# Altium footprint library ESP32_C3_MINI_1_H4.PcbLib: 1 footprints
Each footprint in its own frame and in the unit in brackets; x right, y up, seen from the top. Pads: shape width x height; smd on the part's side, far side on the other; paste and mask are expansions set on the pad; w line width, h text height; cw(c..) or ccw(c..) is an arc to the next point about the centre after c.
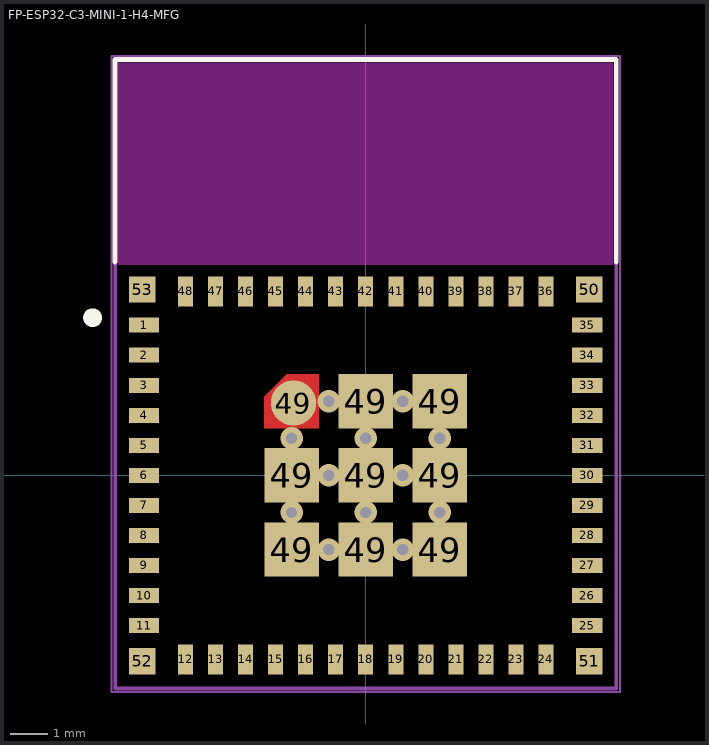
[diagram p0: the footprint, top view; thin cyan lines are the x and y axes]

## FP-ESP32-C3-MINI-1-H4-MFG [mm]
pads (61):
  rect 0.8x0.4 smd paste+0 mask+0: 1(-5.9,4) 2(-5.9,3.2) 3(-5.9,2.4) 4(-5.9,1.6) 5(-5.9,0.8) 6(-5.9,0) 7(-5.9,-0.8) 8(-5.9,-1.6) 9(-5.9,-2.4) 10(-5.9,-3.2) 11(-5.9,-4) 25(5.9,-4) 26(5.9,-3.2) 27(5.9,-2.4) 28(5.9,-1.6) 29(5.9,-0.8) 30(5.9,0) 31(5.9,0.8) 32(5.9,1.6) 33(5.9,2.4) 34(5.9,3.2) 35(5.9,4)
  rect 0.4x0.8 smd paste+0 mask+0: 12(-4.8,-4.9) 13(-4,-4.9) 14(-3.2,-4.9) 15(-2.4,-4.9) 16(-1.6,-4.9) 17(-0.8,-4.9) 18(0,-4.9) 19(0.8,-4.9) 20(1.6,-4.9) 21(2.4,-4.9) 22(3.2,-4.9) 23(4,-4.9) 24(4.8,-4.9) 36(4.8,4.9) 37(4,4.9) 38(3.2,4.9) 39(2.4,4.9) 40(1.6,4.9) 41(0.8,4.9) 42(0,4.9) 43(-0.8,4.9) 44(-1.6,4.9) 45(-2.4,4.9) 46(-3.2,4.9) 47(-4,4.9) 48(-4.8,4.9)
  rect 1.45x1.45 smd paste+0 mask+0: 49(-1.975,-1.975) 49(-1.975,0) 49(0,-1.975) 49(0,0) 49(0,1.975) 49(1.975,-1.975) 49(1.975,0) 49(1.975,1.975)
  round 1.207 smd paste+0 mask+0: 49(-1.926,1.926)
  rect 0.7x0.7 smd paste+0 mask+0: 50(5.95,4.95) 51(5.95,-4.95) 52(-5.95,-4.95) 53(-5.95,4.95)
via 0.988,1.975 diameter 0.6 hole 0.3
via 0.988,0 diameter 0.6 hole 0.3
via 0.988,-1.975 diameter 0.6 hole 0.3
via -0.988,1.975 diameter 0.6 hole 0.3
via -0.988,0 diameter 0.6 hole 0.3
via -0.988,-1.975 diameter 0.6 hole 0.3
via 1.975,-0.988 diameter 0.6 hole 0.3
via 0,-0.988 diameter 0.6 hole 0.3
via -1.975,-0.988 diameter 0.6 hole 0.3
via 1.975,0.988 diameter 0.6 hole 0.3
via 0,0.988 diameter 0.6 hole 0.3
via -1.975,0.988 diameter 0.6 hole 0.3
Top Layer:
  region: -2.7,1.25 -2.7,2.1 -2.1,2.7 -1.25,2.7 -1.25,1.25
Top Overlay:
  circle w0.25: c-7.275,4.2 r0.125
  lines w0.127: -6.675,5.675 -6.675,11.075 6.675,11.075 6.675,5.675
Keep-Out Layer:
  rectangle: -6.6,5.6 6.6,11
Top Assembly:
  lines w0.1: -6.675,-5.675 -6.675,11.075 6.675,11.075 6.675,-5.675 -6.675,-5.675
  text ".Designator" at 0,2.888 h1
Top Courtyard:
  lines w0.05: -6.775,-5.775 -6.775,11.175 6.775,11.175 6.775,-5.775 -6.775,-5.775
Top Component Center (Mech17):
  lines w0.1: -0.5,0 0.5,0 ; 0,-0.5 0,0.5
3D body "UNK_Espressif_Systems_ESP32-C3-MINI-1-H4_eec.STEP": height 0.25, standoff 0, extent -6.775,-5.775 6.775,11.175